# Altium footprint library D882.PcbLib: 1 footprints
Each footprint in its own frame and in the unit in brackets; x right, y up, seen from the top. Pads: shape width x height; smd on the part's side, far side on the other; paste and mask are expansions set on the pad; w line width, h text height; cw(c..) or ccw(c..) is an arc to the next point about the centre after c.
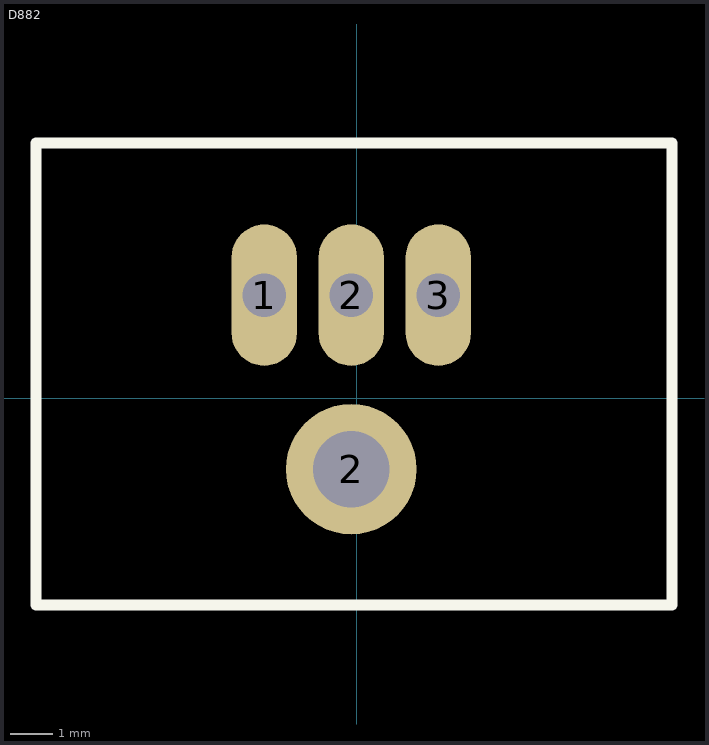
[diagram p0: the footprint, top view; thin cyan lines are the x and y axes]

## D882 [mil]
pads (4):
  oval 60x130 hole 40: 1(-85,95) 2(-5,95) 3(75,95)
  round 120 hole 70: 2(-5,-65)
Top Overlay:
  lines w10: -295,-190 290,-190 290,235 -295,235 -295,-190
Bottom Overlay:
  lines w10: -295,-190 290,-190 290,235 -295,235 -295,-190
3D body "D882.STEP": height 984.25, standoff -157.48, extent -300.28,-194.53 290.28,235